# EAGLE library part MPC17C724EP (library pimoroni-ics)
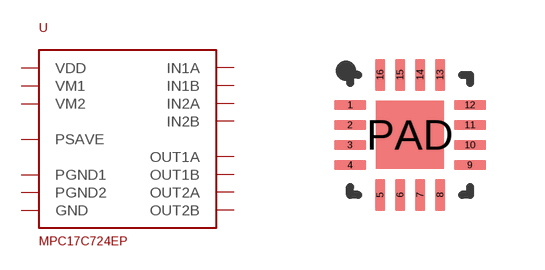
[diagram p22: symbol with the pads of QFN-16; footprint QFN-16]

Designator prefix -

## MPC17C724EP  [QFN-16]
1  IN1A
2  IN1B
3  OUT1A
4  VM1
5  OUT2A
6  PGND2
7  PGND2
8  OUT2B
9  VM2
10  OUT1B
11  IN2B
12  IN2A
13  PSAVE
14  GND
15  PGND1
16  VDD
PAD  GND

## Footprint QFN-16 (pad centres in mm)
smd 0.8 x 0.25: 1 -1.5,0.75; 2 -1.5,0.25; 3 -1.5,-0.25; 4 -1.5,-0.75; 9 1.5,-0.75; 10 1.5,-0.25; 11 1.5,0.25; 12 1.5,0.75
smd 0.25 x 0.8: 5 -0.75,-1.5; 6 -0.25,-1.5; 7 0.25,-1.5; 8 0.75,-1.5; 13 0.75,1.5; 14 0.25,1.5; 15 -0.25,1.5; 16 -0.75,1.5
smd 1.7 x 1.7: PAD 0,0